# Altium schematic symbol library analog_ic.schlib: 26 symbols
Pins are listed as number, name and electrical type; pins without a type are passive.

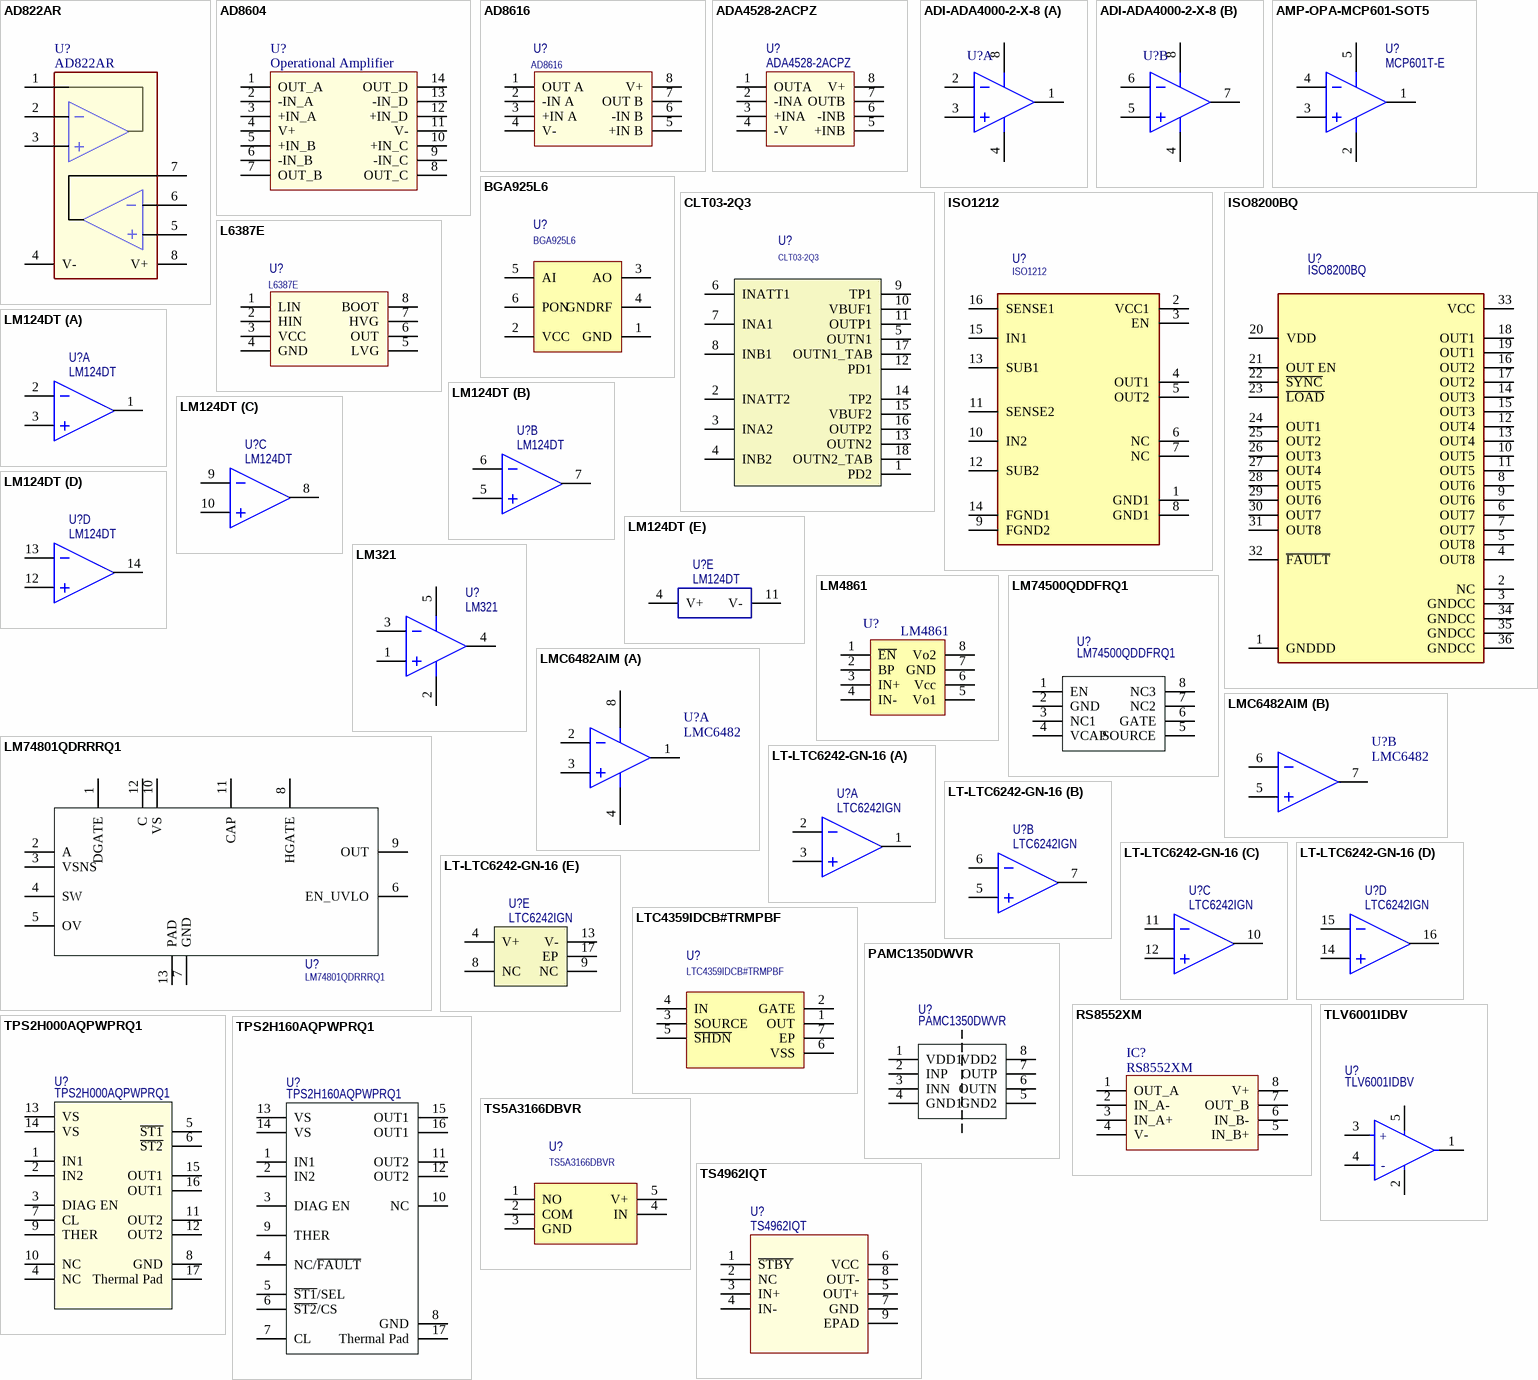
[diagram p0: symbols AD822AR to TS4962IQT]

## AD822AR
designator U?
Single Supply, Rail-to-Rail / Low Power FET-Input Op Amp; Part: AD822AR
footprint SO-8 (SOIC, 8-Leads, Body 4.9x3.9mm, Pitch 1.27mm, IPC Medium Density)
pins: 1 OUT1, 2 IN1-, 3 IN1+, 4 V-, 5 IN2+, 6 IN2-, 7 OUT2, 8 V+

## AD8604
designator U?, comment Operational Amplifier
Precision CMOS, Single-Supply, Rail-to-Rail, / Input/Output Wideband Operational Amplifiers; Part: AD8604ARZ; MF: Analog Devices; Package: SOIC-14
footprint SOIC-14
pins: 1 OUT_A, 2 -IN_A, 3 +IN_A, 4 V+, 5 +IN_B, 6 -IN_B, 7 OUT_B, 8 OUT_C, 9 -IN_C, 10 +IN_C, 11 V-, 12 +IN_D, 13 -IN_D, 14 OUT_D

## AD8616
designator U?
footprint SO-8_M (SOIC, 8-Leads, Body 4.9x3.9mm, Pitch 1.27mm, IPC Low Density)
pins: 1 OUT A, 2 -IN A, 3 +IN A, 4 V-, 5 +IN B, 6 -IN B, 7 OUT B, 8 V+

## ADA4528-2ACPZ
designator U?
footprint ADI-CP-8-2_M (SON, 8-Leads, Body 3x3mm, Pitch 0.5mm, Thermal Pad 1.75x1.45mm, IPC Low Density)
pins: 1 OUTA, 2 -INA, 3 +INA, 4 -V, 5 +INB, 6 -INB, 7 OUTB, 8 V+

## ADI-ADA4000-2-X-8
designator U?
footprint ADI-RM-8_M (SOP, 8-Leads, Body 3x3mm, Pitch 0.65mm, IPC Low Density)
pins on every part: 4 -V, 8 +V
part A pins: 1 OUT A, 2 -IN A, 3 +IN A
part B pins: 5 +IN B, 6 -IN B, 7 OUT B

## AMP-OPA-MCP601-SOT5
designator U?, comment MCP601T-E
footprint SOT23-5
pins: 1 VOUT, 2 VSS, 3 VIN+, 4 VIN-, 5 VDD

## BGA925L6
designator U?
footprint INF-TSLP-6-2_V (TSLP, 6-Leads, Body 0.7x1.1 mm)
pins: 1 GND "General ground", 2 VCC "DC supply", 3 AO "LNA output", 4 GNDRF "LNA RF ground", 5 AI "LNA input", 6 PON "Power on control"

## CLT03-2Q3
designator U?
footprint ST_DFN50P400X200X100-16L
pins: 1 PD2, 2 INATT2, 3 INA2, 4 INB2, 5 OUTN1, 6 INATT1, 7 INA1, 8 INB1, 9 TP1, 10 VBUF1, 11 OUTP1, 12 PD1, 13 OUTN2, 14 TP2, 15 VBUF2, 16 OUTP2, 17 OUTN1_TAB, 18 OUTN2_TAB

## ISO1212
designator U?
footprint FP-DBQ0016A-IPC_C
pins: 1 GND1, 2 VCC1, 3 EN, 4 OUT1, 5 OUT2, 6 NC, 7 NC, 8 GND1, 9 FGND2, 10 IN2, 11 SENSE2, 12 SUB2, 13 SUB1, 14 FGND1, 15 IN1, 16 SENSE1

## ISO8200BQ
designator U?
pins: 1 GNDDD, 2 NC, 3 GNDCC, 4 OUT8, 5 OUT8, 6 OUT7, 7 OUT7, 8 OUT6, 9 OUT6, 10 OUT5, 11 OUT5, 12 OUT4, 13 OUT4, 14 OUT3, 15 OUT3, 16 OUT2, 17 OUT2, 18 OUT1, 19 OUT1, 20 VDD, 21 OUT EN, 22 ~{SYNC}, 23 ~{LOAD}, 24 OUT1, 25 OUT2, 26 OUT3, 27 OUT4, 28 OUT5, 29 OUT6, 30 OUT7, 31 OUT8, 32 ~{FAULT}, 33 VCC, 34 GNDCC, 35 GNDCC, 36 GNDCC

## L6387E
designator U?
Part: L6387ED013TR; JLCPCBPart: C234211
footprint SO-8_M (SOIC, 8-Leads, Body 4.9x3.9mm, Pitch 1.27mm, IPC Low Density)
pins: 1 LIN, 2 HIN, 3 VCC, 4 GND, 5 LVG, 6 OUT, 7 HVG, 8 BOOT

## LM124DT
designator U?
Part: LM124DT; Alternative Part: *
footprint SO-14 (14-Pin Small Outline Integrated Circuit 1.27 mm Pitch, IPC Medium Density)
part A pins: 1 OUT A, 2 -N A, 3 +IN A
part B pins: 5 +IN B, 6 -IN B, 7 OUT B
part C pins: 8 OUT C, 9 -IN C, 10 +IN C
part D pins: 12 +IN D, 13 -IN D, 14 OUT D
part E pins: 4 V+, 11 V-

## LM321
designator U?
Part: LM321; JLCPCBPart: C395460
footprint SOT23-5
pins: 1 VIN+, 2 VSS, 3 VIN-, 4 VOUT, 5 VDD

## LM4861
designator U?
Audio amplifier 1W
footprint SO-8 (SOIC, 8-Leads, Body 4.9x3.9mm, Pitch 1.27mm, IPC Medium Density)
pins: 1 ~{EN} "Shutdown", 2 BP "Bypass", 3 IN+ "Positive input", 4 IN- "Negative input", 5 Vo1 "Output1", 6 Vcc, 7 GND, 8 Vo2 "Output2"

## LM74500QDDFRQ1
designator U?
ideal diode controller
footprint TI_SOT23-8
pins: 1 EN, 2 GND, 3 NC1, 4 VCAP, 5 SOURCE, 6 GATE, 7 NC2, 8 NC3

## LM74801QDRRRQ1
designator U?
ideal diode controller
footprint DRR0012E
pins: 1 DGATE, 2 A, 3 VSNS, 4 SW, 5 OV, 6 EN_UVLO, 7 GND, 8 HGATE, 9 OUT, 10 VS, 11 CAP, 12 C, 13 PAD

## LMC6482AIM
designator U?, comment LMC6482
CMOS Dual Rail-to-Rail Input and Output Operational Amplifier, 8-pin Narrow SOIC; Part: LMC6482AIM; Manufacturer: National Semiconductor; PackageTopMarking: NSZXTT*LMC64*82AIM; PowerWise: N; CompType: Amplifiers; Published: 4-Dec-2008; LatestRevisionDate: 13-Jan-2009; LatestRevisionNote: Sim Model Added.; DatasheetVersion: Sep-2003; PackageVersion: revM, May-2009; PackageReference: M08A; Publisher: Altium Limited; PackageDescription: SOIC Narrow, 4.9 x 3.9 x 1.45mm, 8 Lead, 1.27mm Pitch; Supplier 1: Farnell; Supplier Part Number 1: 9494723; RoHS: N; PinCount: 8; Code_JEDEC: MS-012-AA; Code_IPC: SOIC127P600-8; ComponentLink1Description: LMC6482 Datasheet; ComponentLink1URL: http://www.national.com/ds/LM/LMC6482.pdf; ComponentLink2Description: LMC6482 Web Page; ComponentLink2URL: http://www.national.com/pf/LM/LMC6482.html; ComponentLink3Description: M08A Package Page; ComponentLink3URL: http://www.national.com/packaging/folders/m08a.html
footprint SO-8 (SOIC, 8-Leads, Body 4.9x3.9mm, Pitch 1.27mm, IPC Medium Density)
footprint SO-8_L (SOIC, 8-Leads, Body 4.9x3.9mm, Pitch 1.27mm, IPC High Density)
footprint SO-8_M (SOIC, 8-Leads, Body 4.9x3.9mm, Pitch 1.27mm, IPC Low Density)
part A pins: 1 OUTA, 2 INA-, 3 INA+, 4 V-, 8 V+
part B pins: 5 INB+, 6 INB-, 7 OUTB

## LT-LTC6242-GN-16
designator U?, comment LTC6242IGN
footprint LT-GN-16_L (SOP, 16-Leads, Body 4.9x3.9mm, Pitch 0.635mm, IPC High Density)
footprint DFN-16/LT-DHC-16_V (SON, 16-Leads, Body 5x3mm, Pitch 0.5mm, Thermal Pad 4.4X1.65mm)
part A pins: 1 OUT A, 2 -N A, 3 +IN A
part B pins: 5 +IN B, 6 -IN B, 7 OUT B
part C pins: 10 OUT C, 11 -IN C, 12 +IN C
part D pins: 14 +IN D, 15 -IN D, 16 OUT D
part E pins: 4 V+, 8 NC, 9 NC, 13 V-, 17 EP

## LTC4359IDCB#TRMPBF
designator U?
ideal diode ic
footprint LT-DCB-6_V (SON, 6-Leads, Body 3x2mm, Pitch 0.5mm, Thermal Pad 1.65x1.35mm)
pins: 1 OUT "Drain Voltage Sense. OUT is the cathode of the ideal diode and the common output when multiple LTC4359s are configured as an ideal diode-OR. It connects either directly or through a 2k resistor to the drain of the N-channel (See Datasheet)", 2 GATE "Gate Drive Output. The GATE pin pulls high, enhancing the N-channel MOSFET when the load current creates more than 30mV of voltage drop across the MOSFET. When the load current is small the gate is actively driven to (See Datasheet)", 3 SOURCE "Source Connection. Source is the return path of the gate fast pull-down. Connect this pin as close as possible to the source of the external N-channel MOSFET.", 4 IN "Voltage Sense and Supply Voltage. IN is the anode of the ideal diode. The voltage sensed at this pin is used to control the MOSFET gate.", 5 ~{SHDN} "Shutdown Control Input. The LTC4359 can be shut down to a low current mode by pulling the S\H\D\N\ pin below 0.6V. Pulling this pin above 2V or disconnecting it allows an internal 2uA current source to turn the part on. (See Datasheet)", 6 VSS "Supply Voltage Return and Device Ground.", 7 EP "Exposed pad may be left open or connected to VSS."

## PAMC1350DWVR
designator U?
footprint FP-DWV0008A-IPC_C
pins: 1 VDD1, 2 INP, 3 INN, 4 GND1, 5 GND2, 6 OUTN, 7 OUTP, 8 VDD2

## RS8552XM
designator IC?
Zero-Drift, Rail-to-Rail I/O CMOS Operational / Amplifiers
footprint MSOP-8
pins: 1 OUT_A, 2 IN_A-, 3 IN_A+, 4 V-, 5 IN_B+, 6 IN_B-, 7 OUT_B, 8 V+

## TLV6001IDBV
designator U?
footprint FP-DBV0005A-MFG
pins: 1 OUT, 2 V-, 3 +IN, 4 -IN, 5 V+
text: +; -

## TPS2H000AQPWPRQ1
designator U?
footprint FP-PWP0016J-MFG
pins: 1 IN1, 2 IN2, 3 DIAG EN, 4 NC, 5 ~{ST1}, 6 ~{ST2}, 7 CL, 8 GND, 9 THER, 10 NC, 11 OUT2, 12 OUT2, 13 VS, 14 VS, 15 OUT1, 16 OUT1, 17 Thermal Pad

## TPS2H160AQPWPRQ1
designator U?
footprint FP-PWP0016J-MFG
pins: 1 IN1, 2 IN2, 3 DIAG EN, 4 NC/~{FAULT}, 5 ~{ST1}/SEL, 6 ~{ST2}/CS, 7 CL, 8 GND, 9 THER, 10 NC, 11 OUT2, 12 OUT2, 13 VS, 14 VS, 15 OUT1, 16 OUT1, 17 Thermal Pad

## TS5A3166DBVR
designator U?
Part: TS5A3166DBVR; JLCPCBPart: C353035
footprint SOT23-5
pins: 1 NO "General ground", 2 COM "DC supply", 3 GND "LNA output", 4 IN "LNA RF ground", 5 V+ "LNA input"

## TS4962IQT
designator U?
2.8 W filter-free mono class D audio power amplifier; Part: TS4962IQT
footprint DFN-8 (pitch 0.65 mm)
pins: 1 ~{STBY}, 2 NC, 3 IN+, 4 IN-, 5 OUT+, 6 VCC, 7 GND, 8 OUT-, 9 EPAD